# Altium footprint library PiParts.PcbLib: 6 footprints
Each footprint in its own frame and in the unit in brackets; x right, y up, seen from the top. Pads: shape width x height; smd on the part's side, far side on the other; paste and mask are expansions set on the pad; w line width, h text height; cw(c..) or ccw(c..) is an arc to the next point about the centre after c.
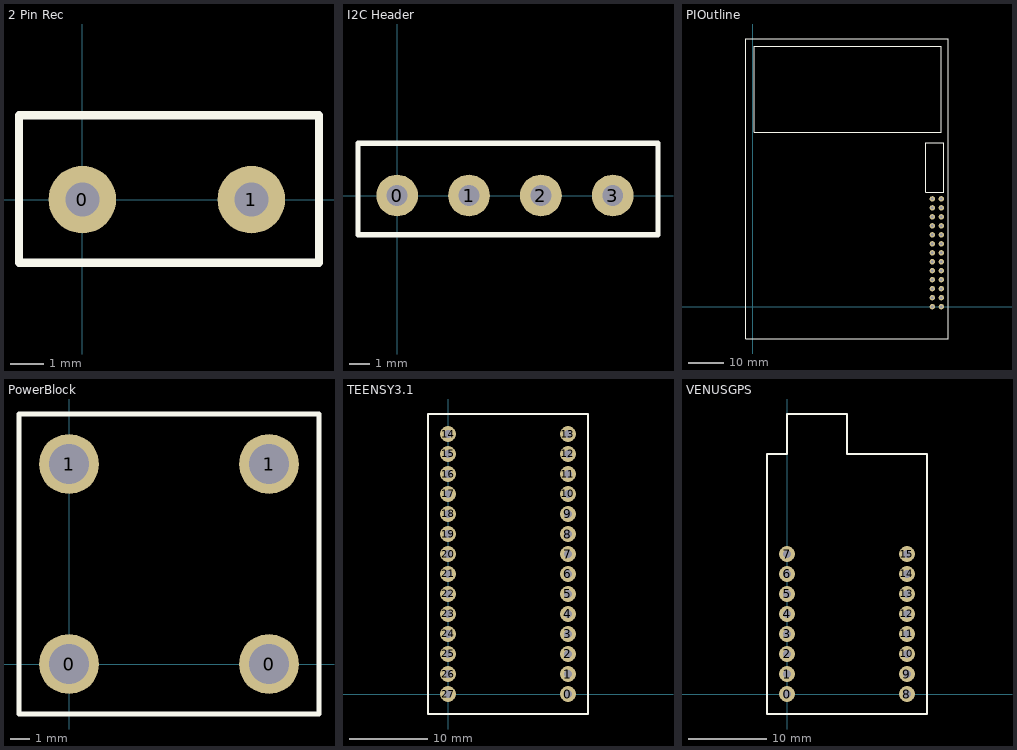
[diagram p0: the footprints below, top view; thin cyan lines are the x and y axes]

## 2 Pin Rec [mil]
pads (2):
  round 80 hole 40: 0(0,0) 1(200,0)
Top Overlay:
  lines w10: -75,-75 280,-75 280,100 -75,100 -75,-75

## I2C Header [mil]
pads (4):
  round 80 hole 40: 0(0,0) 1(137.8,0) 2(275.59,0) 3(413.39,0)
Top Overlay:
  lines w10: -75,-75 -75,100 500,100 500,-75 -75,-75

## PIOutline [mil]
pads (26):
  round 60 hole 30: 0(2000,0) 1(2100,0) 2(2000,100) 3(2100,100) 4(2000,200) 5(2100,200) 6(2000,300) 7(2100,300) 8(2000,400) 9(2100,400) 10(2000,500) 11(2100,500) 12(2000,600) 13(2100,600) 14(2000,700) 15(2100,700) 16(2000,800) 17(2100,800) 18(2000,900) 19(2100,900) 20(2000,1000) 21(2100,1000) 22(2000,1100) 23(2100,1100) 24(2000,1200) 25(2100,1200)
Top Overlay:
  lines w10: -80,-360 2180,-360 2180,2980 -80,2980 -80,-360 ; 20,1940 2100,1940 2100,2900 20,2900 20,1940 ; 1925,1275 1925,1825 2125,1825 2125,1275 1925,1275

## PowerBlock [mil]
pads (4):
  round 120 hole 80: 0(0,0) 0(400,0) 1(0,400) 1(400,400)
Top Overlay:
  lines w10: -100,-100 500,-100 500,500 -100,500 -100,-100

## TEENSY3.1 [mil]
pads (28):
  round 80 hole 40: 0(600,0) 1(600,100) 2(600,200) 3(600,300) 4(600,400) 5(600,500) 6(600,600) 7(600,700) 8(600,800) 9(600,900) 10(600,1000) 11(600,1100) 12(600,1200) 13(600,1300) 14(0,1300) 15(0,1200) 16(0,1100) 17(0,1000) 18(0,900) 19(0,800) 20(0,700) 21(0,600) 22(0,500) 23(0,400) 24(0,300) 25(0,200) 26(0,100) 27(0,0)
Top Overlay:
  lines w10: -100,-100 700,-100 700,1400 -100,1400 -100,-100

## VENUSGPS [mil]
pads (16):
  round 80 hole 40: 0(0,0) 1(0,100) 2(0,200) 3(0,300) 4(0,400) 5(0,500) 6(0,600) 7(0,700) 8(600,0) 9(600,100) 10(600,200) 11(600,300) 12(600,400) 13(600,500) 14(600,600) 15(600,700)
Top Overlay:
  lines w10: -100,-100 700,-100 700,1200 500,1200 300,1200 300,1400 100,1400 0,1400 0,1200 -100,1200 -100,-100